# Altium schematic symbol library Schematic-Lib-Pytenax.SchLib: 8 symbols
Pins are listed as number, name and electrical type; pins without a type are passive.

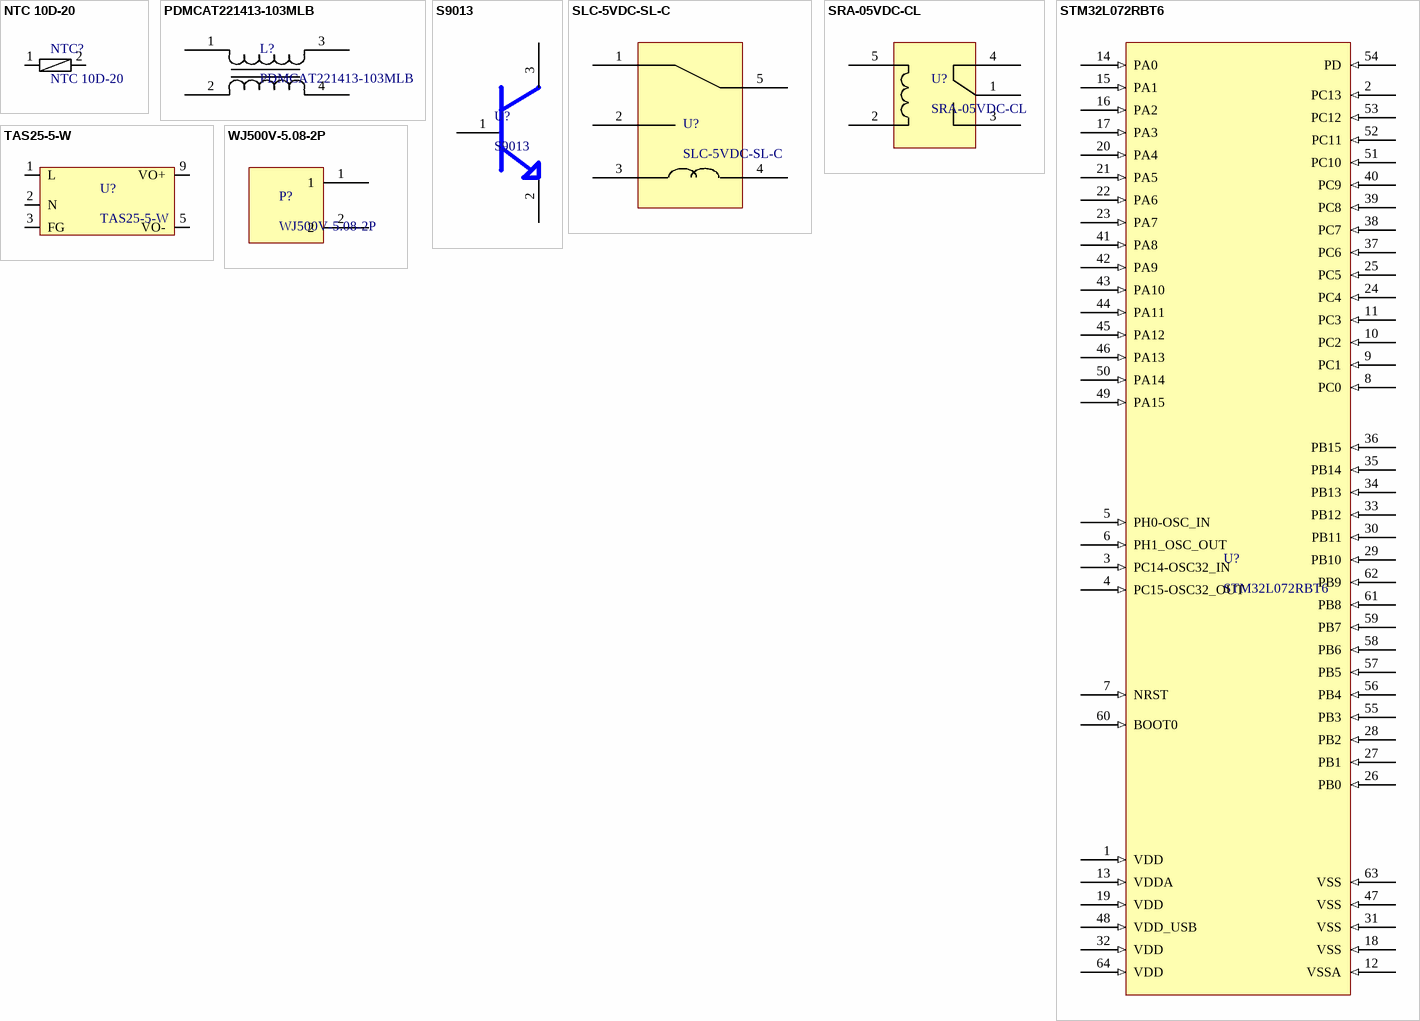
[diagram p0: symbols NTC 10D-20 to WJ500V-5.08-2P]

## NTC 10D-20
designator NTC?
10Ω 6A Plugin,P=10mm NTC Thermistors ROHS
footprint NTC10D-20
pins: 1, 2

## PDMCAT221413-103MLB
designator L?
10mH@1kHz 55mΩ 2 Plugin,28x18.5mm Common Mode Filters ROHS
footprint PDMCAT221413-103MLB
pins: 1, 2, 3 9, 4

## S9013
designator U?
/ SOT-23 Bipolar Transistors - BJT ROHS /
footprint SOT-23-3
pins: 1, 2, 3

## SLC-5VDC-SL-C
designator U?
5V 30A SPDT (1 Form C) 5 Plugin,27.6x32.2mm Power Relays ROHS
footprint SLC-5VDC-SL-C (5V 30A SPDT (1 Form C) 5 Plugin,27.6x32.2mm Power Relays ROHS)
pins: 1, 2, 3, 4, 5

## SRA-05VDC-CL
designator U?
5V 10A 20A@14VAC SPDT (1 Form C) 5 Plugin,12.4x16mm Power Relays ROHS
footprint SRA-05VDC-CL (Footprint not found)
pins: 1, 2, 3, 4, 5

## STM32L072RBT6
designator U?
128KB 1.8V~3.6V ARM-MSeries 20KB 32MHz FLASH 51 LQFP-64(10x10) Microcontroller Units (MCUs/MPUs/SOCs) ROHS
footprint LQFP64 - 64-pin
pins: 1 VDD (in), 2 PC13 (in), 3 PC14-OSC32_IN (in), 4 PC15-OSC32_OUT (in), 5 PH0-OSC_IN (in), 6 PH1_OSC_OUT (in), 7 NRST (in), 8 PC0 (in), 9 PC1 (in), 10 PC2 (in), 11 PC3 (in), 12 VSSA (in), 13 VDDA (in), 14 PA0 (in), 15 PA1 (in), 16 PA2 (in), 17 PA3 (in), 18 VSS (in), 19 VDD (in), 20 PA4 (in), 21 PA5 (in), 22 PA6 (in), 23 PA7 (in), 24 PC4 (in), 25 PC5 (in), 26 PB0 (in), 27 PB1 (in), 28 PB2 (in), 29 PB10 (in), 30 PB11 (in), 31 VSS (in), 32 VDD (in), 33 PB12 (in), 34 PB13 (in), 35 PB14 (in), 36 PB15 (in), 37 PC6 (in), 38 PC7 (in), 39 PC8 (in), 40 PC9 (in), 41 PA8 (in), 42 PA9 (in), 43 PA10 (in), 44 PA11 (in), 45 PA12 (in), 46 PA13 (in), 47 VSS (in), 48 VDD_USB (in), 49 PA15 (in), 50 PA14 (in), 51 PC10 (in), 52 PC11 (in), 53 PC12 (in), 54 PD (in), 55 PB3 (in), 56 PB4 (in), 57 PB5 (in), 58 PB6 (in), 59 PB7 (in), 60 BOOT0 (in), 61 PB8 (in), 62 PB9 (in), 63 VSS (in), 64 VDD (in)

## TAS25-5-W
designator U?
5V 85VAC~265VAC 5A 100V~370V 25W 86% Plugin,48x70mm Power Modules ROHS; Output Voltage: 5V; Output Current (Max): 5A; Output Power: 25W; Input Voltage(AC): 85VAC~265VAC; Conversion Efficiency: 86%
footprint TAS25-5-W
pins: 1 L, 2 N, 3 FG, 5 VO-, 9 VO+

## WJ500V-5.08-2P
designator P?
1x2P 18A -40℃~+105℃ 250V Green 14~30 Straight 5.08mm 2.5 1 2 Plugin,P=5.08mm Screw terminal ROHS
footprint WJ500V-5.08-2P (1x2P 18A -40?~+105? 250V Green 14~30 Straight 5.08mm 2.5 1 2 Plugin,P=5.08mm Screw terminal ROHS)
pins: 1, 2